# EAGLE library part MPU-9250 (library chips)
GYRO/ACCEL/COMPASS/9-AXIS
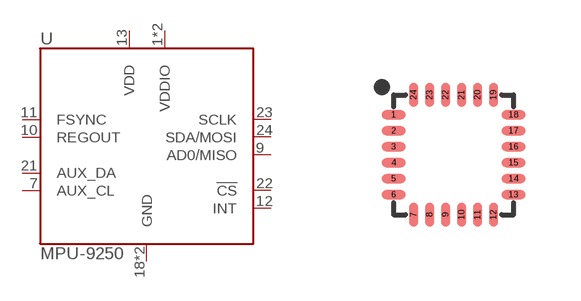
[diagram p0: symbol with the pads of QFN-24/3MM; footprint QFN-24/3MM]

Designator prefix U

## MPU-9250 (DIGIKEY: 1428-1019-1-ND)  [QFN-24/3MM]
1  VDDIO
7  AUX_CL
8  VDDIO
9  AD0/MISO
10  REGOUT
11  FSYNC
12  INT
13  VDD
18  GND
20  GND
21  AUX_DA
22  !CS
23  SCLK
24  SDA/MOSI

## Footprint QFN-24/3MM (pad centres in mm)
smd 0.6 x 0.23: 1 -1.5,1; 2 -1.5,0.6; 3 -1.5,0.2; 4 -1.5,-0.2; 5 -1.5,-0.6; 6 -1.5,-1; 13 1.5,-1; 14 1.5,-0.6; 15 1.5,-0.2; 16 1.5,0.2; 17 1.5,0.6; 18 1.5,1
smd 0.23 x 0.6: 7 -1,-1.5; 8 -0.6,-1.5; 9 -0.2,-1.5; 10 0.2,-1.5; 11 0.6,-1.5; 12 1,-1.5; 19 1,1.5; 20 0.6,1.5; 21 0.2,1.5; 22 -0.2,1.5; 23 -0.6,1.5; 24 -1,1.5